# EAGLE library part TLE7230G (library SPI_Switch)
TLE7230G SPI Driver, 8 channel, low side switch
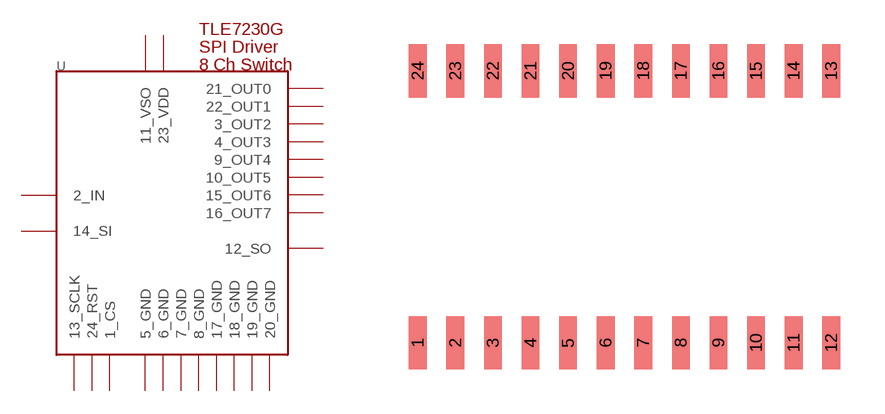
[diagram p1: symbol with the pads of TLE7230G; footprint TLE7230G]

Designator prefix -

## TLE7230G  [TLE7230G]
1  1_CS
2  2_IN
3  3_OUT2
4  4_OUT3
5  5_GND
6  6_GND
7  7_GND
8  8_GND
9  9_OUT4
10  10_OUT5
11  11_VSO
12  12_SO
13  13_SCLK
14  14_SI
15  15_OUT6
16  16_OUT7
17  17_GND
18  18_GND
19  19_GND
20  20_GND
21  21_OUT0
22  22_OUT1
23  23_VDD
24  24_RST

## Footprint TLE7230G (pad centres in mm)
TLE7230G SPI Driver, 8 channel, low side switch
smd 0.6 x 1.8: 1 3.175,4.29; 2 4.445,4.29; 3 5.715,4.29; 4 6.985,4.29; 5 8.255,4.29; 6 9.525,4.29; 7 10.795,4.29; 8 12.065,4.29; 9 13.335,4.29; 10 14.605,4.29; 11 15.875,4.29; 12 17.145,4.29; 13 17.145,13.49; 14 15.875,13.49; 15 14.605,13.49; 16 13.335,13.49; 17 12.065,13.49; 18 10.795,13.49; 19 9.525,13.49; 20 8.255,13.49; 21 6.985,13.49; 22 5.715,13.49; 23 4.445,13.49; 24 3.175,13.49